# Altium footprint library Motor_Drive.PcbLib: 37 footprints (part 1 of 3)
Each footprint in its own frame and in the unit in brackets; x right, y up, seen from the top. Pads: shape width x height; smd on the part's side, far side on the other; paste and mask are expansions set on the pad; w line width, h text height; cw(c..) or ccw(c..) is an arc to the next point about the centre after c.
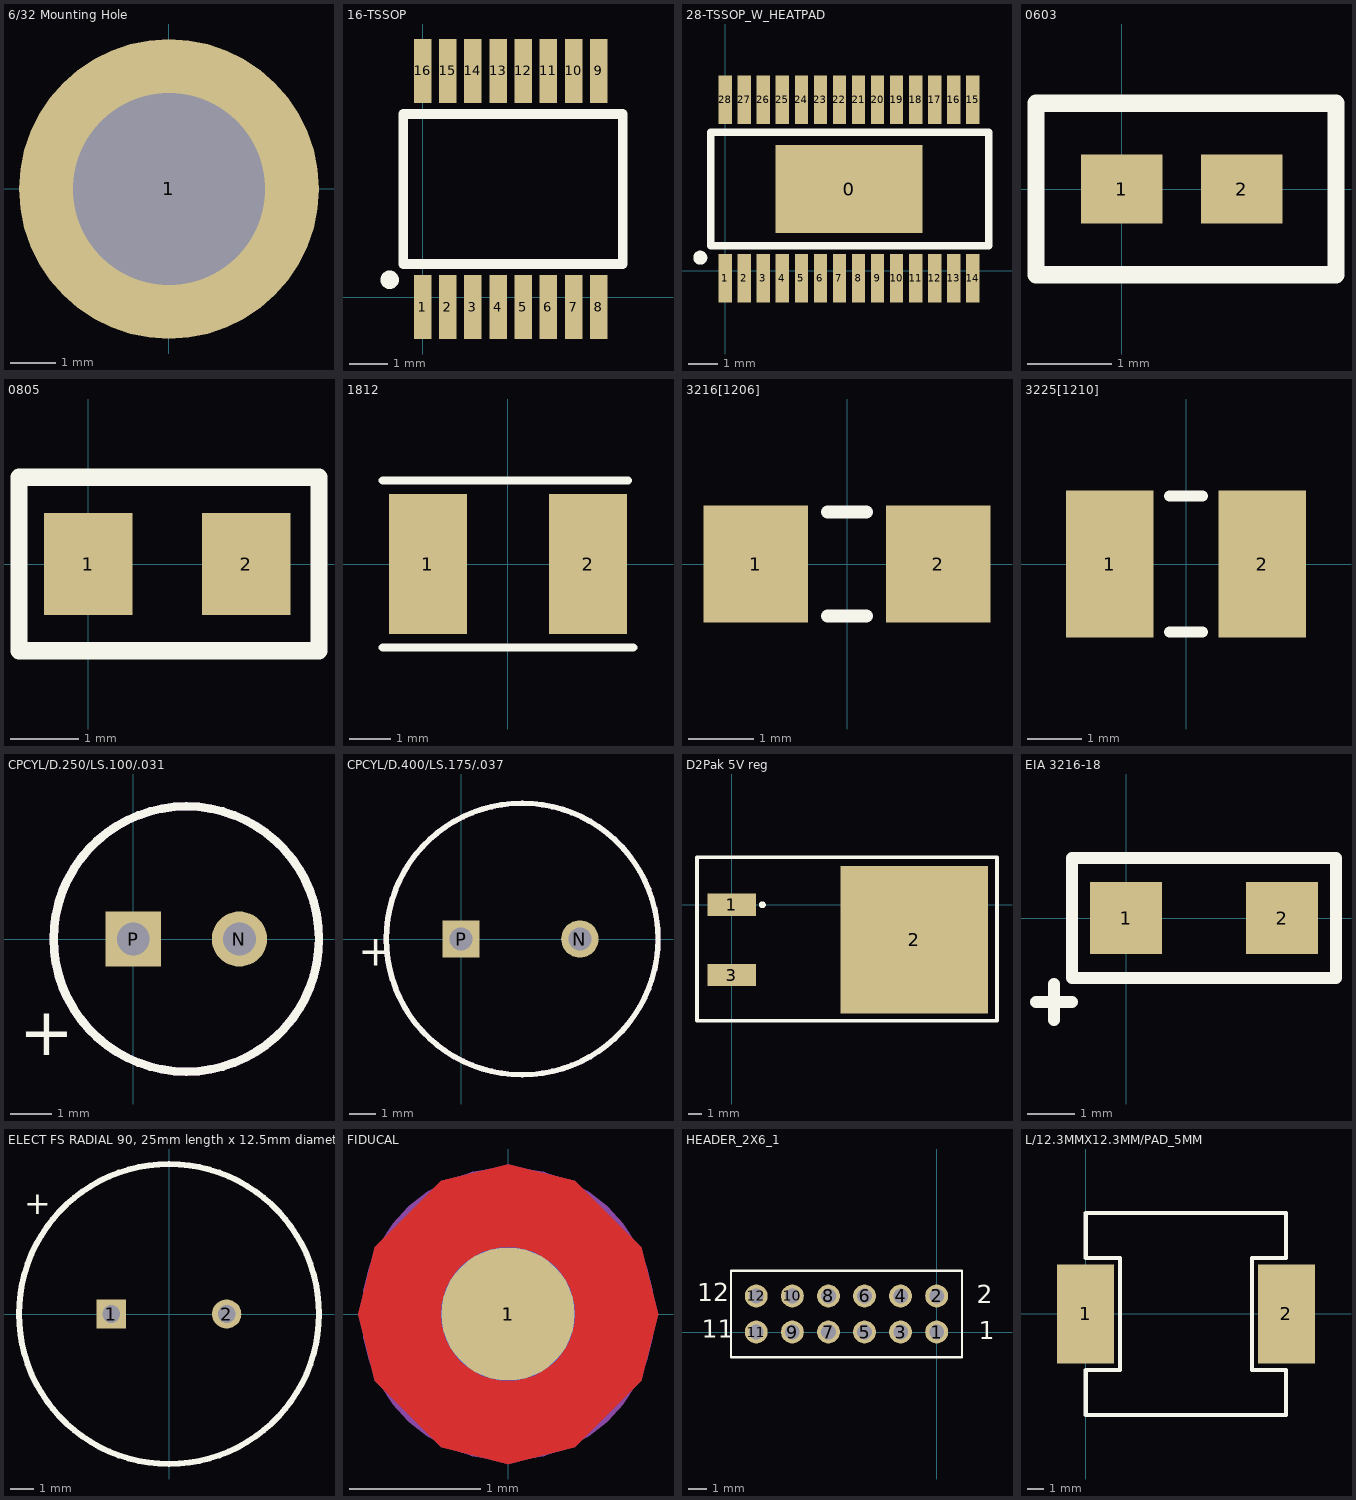
[diagram p0: the footprints below, top view; thin cyan lines are the x and y axes]

## 6/32 Mounting Hole [mil]
pads (1):
  round 260 hole 166: 1(0,0)

## 16-TSSOP [mm] "15-TSSOP FOOTPRINT"
height 1.2
pads (16):
  rect 0.45x1.65 smd: 1(0,-0.254) 2(0.65,-0.254) 3(1.3,-0.254) 4(1.95,-0.254) 5(2.6,-0.254) 6(3.25,-0.254) 7(3.9,-0.254) 8(4.55,-0.254) 9(4.55,5.842) 10(3.9,5.842) 11(3.25,5.842) 12(2.6,5.842) 13(1.95,5.842) 14(1.3,5.842) 15(0.65,5.842) 16(0,5.842)
Top Overlay:
  circle w0.254: c-0.85,0.45 r0.112
  lines w0.254: -0.5,0.86 -0.5,4.73 5.17,4.73 5.17,0.86 -0.5,0.86

## 28-TSSOP_W_HEATPAD [mm] "28-TSSOP FOOTPRINT"
height 1.2
pads (29):
  rect 5x3 smd: 0(4.225,2.794)
  rect 0.45x1.65 smd: 1(0,-0.254) 2(0.65,-0.254) 3(1.3,-0.254) 4(1.95,-0.254) 5(2.6,-0.254) 6(3.25,-0.254) 7(3.9,-0.254) 8(4.55,-0.254) 9(5.2,-0.254) 10(5.85,-0.254) 11(6.5,-0.254) 12(7.15,-0.254) 13(7.8,-0.254) 14(8.45,-0.254) 15(8.45,5.842) 16(7.8,5.842) 17(7.15,5.842) 18(6.5,5.842) 19(5.85,5.842) 20(5.2,5.842) 21(4.55,5.842) 22(3.9,5.842) 23(3.25,5.842) 24(2.6,5.842) 25(1.95,5.842) 26(1.3,5.842) 27(0.65,5.842) 28(0,5.842)
Top Overlay:
  circle w0.254: c-0.85,0.45 r0.112
  lines w0.254: -0.5,0.86 -0.5,4.73 9,4.73 9,0.86 -0.5,0.86

## 0603 [mil] "SMT RES/CAP/ETC"
pads (2):
  rect 38x32 smd: 1(0,0) 2(56,0)
Top Overlay:
  lines w8: -40,-40 -40,40 100,40 100,-40 -40,-40

## 0805 [mm] "Chip Resistor; Body 2.0 x 1.3 mm (LxW typ)"
height 0.65
pads (2):
  rect 1.3x1.5 smd: 1(0,0) 2(2.311,0)
Top Overlay:
  lines w0.254: -1.016,-1.27 -1.016,1.27 3.378,1.27 3.378,-1.27 -1.016,-1.27

## 1812 [mm] "Chip Capacitor; Body 4.5 x 3.2 mm (LxW typ)"
height 1.1
pads (2):
  rect 1.9x3.4 smd: 1(-1.95,0) 2(1.95,0)
Top Overlay:
  lines w0.2: -3.048,-2.032 3.048,-2.032 ; -3.048,2.032 2.921,2.032

## 3216[1206] [mm] "Chip Resistor; Body 3.2 x 1.6 mm (LxW typ)"
height 2.54
pads (2):
  rect 1.6x1.8 smd: 1(-1.4,0) 2(1.4,0)
Top Overlay:
  lines w0.2: -0.3,-0.8 0.3,-0.8 ; -0.3,0.8 0.3,0.8

## 3225[1210] [mm] "Chip Resistor; Body 3.2 x 2.5 mm (LxW typ)"
height 0.6
pads (2):
  rect 1.6x2.7 smd: 1(-1.4,0) 2(1.4,0)
Top Overlay:
  lines w0.2: -0.3,-1.25 0.3,-1.25 ; -0.3,1.25 0.3,1.25

## CPCYL/D.250/LS.100/.031 [mil]
pads (2):
  round 52 / inner round 60 / far side round 52 hole 31: N(100,0)
  rect 52x52 / inner round 60 / far side rect 52x52 hole 31: P(0,0)
Top Overlay:
  lines w8: -75,0 ccw(c50,0) 50,-125 ccw(c50,0) 175,0 ccw(c50,0) 50,125 ccw(c50,0) -75,0
  text "+" at -107.67,-109.75 h45
Mechanical 1:
  lines w8: -75,0 ccw(c50,0) 50,-125 ccw(c50,0) 175,0 ccw(c50,0) 50,125 ccw(c50,0) -75,0

## CPCYL/D.400/LS.175/.037 [mil]
pads (2):
  round 55 / inner round 60 / far side round 55 hole 34: N(175,0)
  rect 55x55 / inner round 60 / far side rect 55x55 hole 34: P(0,0)
Top Overlay:
  lines w8: -110,0 ccw(c90,0) 90,-200 ccw(c90,0) 290,0 ccw(c90,0) 90,200 ccw(c90,0) -110,0
  text "+" at -151.67,-39.25 h45
Mechanical 1:
  lines w8: -110,0 ccw(c90,0) 90,-200 ccw(c90,0) 290,0 ccw(c90,0) 90,200 ccw(c90,0) -110,0

## D2Pak 5V reg [mm]
pads (3):
  rect 3.5x1.6 smd: 1(0,0) 3(0,-5.08)
  rect 10.668x10.668 smd: 2(13.183,-2.54)
Top Overlay:
  circle w0.25: c2.21,-0.002 r0.125
  lines w0.254: -2.515,-8.382 -2.515,3.429 19.177,3.429 19.177,-8.382 -2.515,-8.382

## EIA 3216-18 [mil] "CAP FOOTPRINT"
pads (2):
  rect 60x60 smd: 1(0,0) 2(130,0)
Top Overlay:
  lines w10: -75,-70 -45,-70 ; -60,-85 -60,-55 ; -45,-50 175,-50 175,50 -45,50 -45,-50

## ELECT FS RADIAL 90, 25mm length x 12.5mm diameter - vertical [mil] "CAP ELECT FC RADIAL, 12.5mm diameter, 25mm length, 5mm lead spacing"
height 984.25
pads (2):
  rect 50x50 hole 30: 1(-98.43,0)
  round 50 hole 30: 2(98.42,0)
Top Overlay:
  circle w10: c0,0 r255.91
  text "+" at -247,170 h40

## FIDUCAL [mil]
height 265
pads (2):
  round 40 smd: 1(0,0)
  round 40 smd far side: 1(0,0)
Top Layer:
  pour cut-out: -45,0 -40,20 -20,40 0,45 20,40 40,20 45,0 40,-20 20,-40 0,-45 -20,-40 -40,-20
Bottom Layer:
  pour cut-out: -45,0 -40,20 -20,40 0,45 20,40 40,20 45,0 40,-20 20,-40 0,-45 -20,-40 -40,-20
Mechanical 1:
  circle w4: c0,0 r42

## HEADER_2X6_1 [mm] "HIROSE DF11 2MM PITCH"
pads (12):
  round 1.27 hole 0.813: 1(0,0) 2(0,2) 3(-2,0) 4(-2,2) 5(-4,0) 6(-4,2) 7(-6,0) 8(-6,2) 9(-8,0) 10(-8,2) 11(-10,0) 12(-10,2)
Top Overlay:
  lines w0.127: 1.344,-1.4 -11.405,-1.4 -11.405,3.4 1.4,3.4 1.4,-1.4
  text "12" at -13.284,1.702 h1.02
  text "11" at -13.03,-0.305 h1.02
  text "2" at 2.228,1.6 h1.02
  text "1" at 2.327,-0.4 h1.02

## L/12.3MMX12.3MM/PAD_5MM [mil]
pads (2):
  rect 137.8x240 smd: 1(-0.03,0) 2(484.25,0)
Top Overlay:
  lines w10: -0.03,-243.93 483.8,-243.75 483.8,-135 401.2,-135 401.2,135 483.8,135 483.8,243.87 0,243.87 0,135 82.6,135 82.6,-135 -0.01,-135 -0.03,-243.93